# EAGLE library part TI-TLC59283DBQR (library ClintonLib)
16-Channel Constant-Current LED Driver
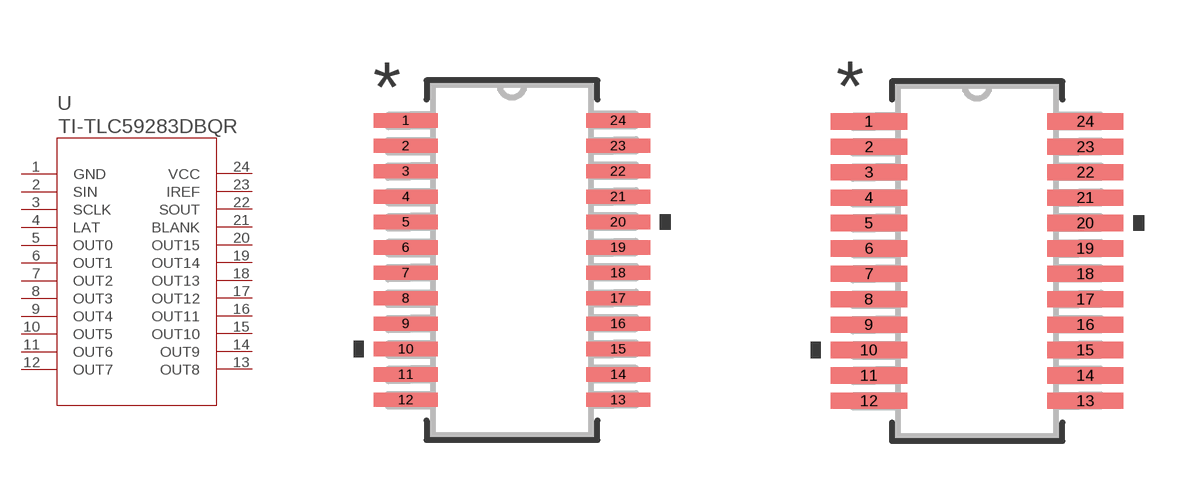
[diagram p22: symbol with the pads of DBQ24; footprints DBQ24, DBQ24-M]

Designator prefix U

## TI-TLC59283DBQR (MANUFACTURER_PART_NUMBER: TLC59283DBQR; VENDOR: Texas Instruments)  [DBQ24]
1  GND  pwr
2  SIN  in
3  SCLK  in
4  LAT  in
5  OUT0  out
6  OUT1  out
7  OUT2  out
8  OUT3  out
9  OUT4  out
10  OUT5  out
11  OUT6  out
12  OUT7  out
13  OUT8  out
14  OUT9  out
15  OUT10  out
16  OUT11  out
17  OUT12  out
18  OUT13  out
19  OUT14  out
20  OUT15  out
21  BLANK  in
22  SOUT  out
23  IREF
24  VCC  pwr

## TI-TLC59283DBQRDBQ24-M (MANUFACTURER_PART_NUMBER: TLC59283DBQR; VENDOR: Texas Instruments)  [DBQ24-M]
Pads as for DBQ24

## TI-TLC59283DBQRDBQ24-L (MANUFACTURER_PART_NUMBER: TLC59283DBQR; VENDOR: Texas Instruments)  [DBQ24-L]
Pads as for DBQ24

## Footprint DBQ24 (pad centres in mm)
smd 1.6 x 0.356: 1 -2.654,3.493; 2 -2.654,2.857; 3 -2.654,2.223; 4 -2.654,1.587; 5 -2.654,0.953; 6 -2.654,0.318; 7 -2.654,-0.318; 8 -2.654,-0.953; 9 -2.654,-1.587; 10 -2.654,-2.223; 11 -2.654,-2.857; 12 -2.654,-3.493; 13 2.654,-3.493; 14 2.654,-2.857; 15 2.654,-2.223; 16 2.654,-1.587; 17 2.654,-0.953; 18 2.654,-0.318; 19 2.654,0.318; 20 2.654,0.953; 21 2.654,1.587; 22 2.654,2.223; 23 2.654,2.857; 24 2.654,3.493

## Footprint DBQ24-M (pad centres in mm)
smd 1.905 x 0.406: 1 -2.705,3.493; 2 -2.705,2.857; 3 -2.705,2.223; 4 -2.705,1.587; 5 -2.705,0.953; 6 -2.705,0.318; 7 -2.705,-0.318; 8 -2.705,-0.953; 9 -2.705,-1.587; 10 -2.705,-2.223; 11 -2.705,-2.857; 12 -2.705,-3.493; 13 2.705,-3.493; 14 2.705,-2.857; 15 2.705,-2.223; 16 2.705,-1.587; 17 2.705,-0.953; 18 2.705,-0.318; 19 2.705,0.318; 20 2.705,0.953; 21 2.705,1.587; 22 2.705,2.223; 23 2.705,2.857; 24 2.705,3.493

## Footprint DBQ24-L (pad centres in mm)
smd 1.295 x 0.305: 1 -2.603,3.493; 2 -2.603,2.857; 3 -2.603,2.223; 4 -2.603,1.587; 5 -2.603,0.953; 6 -2.603,0.318; 7 -2.603,-0.318; 8 -2.603,-0.953; 9 -2.603,-1.587; 10 -2.603,-2.223; 11 -2.603,-2.857; 12 -2.603,-3.493; 13 2.603,-3.493; 14 2.603,-2.857; 15 2.603,-2.223; 16 2.603,-1.587; 17 2.603,-0.953; 18 2.603,-0.318; 19 2.603,0.318; 20 2.603,0.953; 21 2.603,1.587; 22 2.603,2.223; 23 2.603,2.857; 24 2.603,3.493